# Altium footprint library Altera Footprints.PcbLib: 132 footprints (part 4 of 12)
Each footprint in its own frame and in the unit in brackets; x right, y up, seen from the top. Pads: shape width x height; smd on the part's side, far side on the other; paste and mask are expansions set on the pad; w line width, h text height; cw(c..) or ccw(c..) is an arc to the next point about the centre after c.
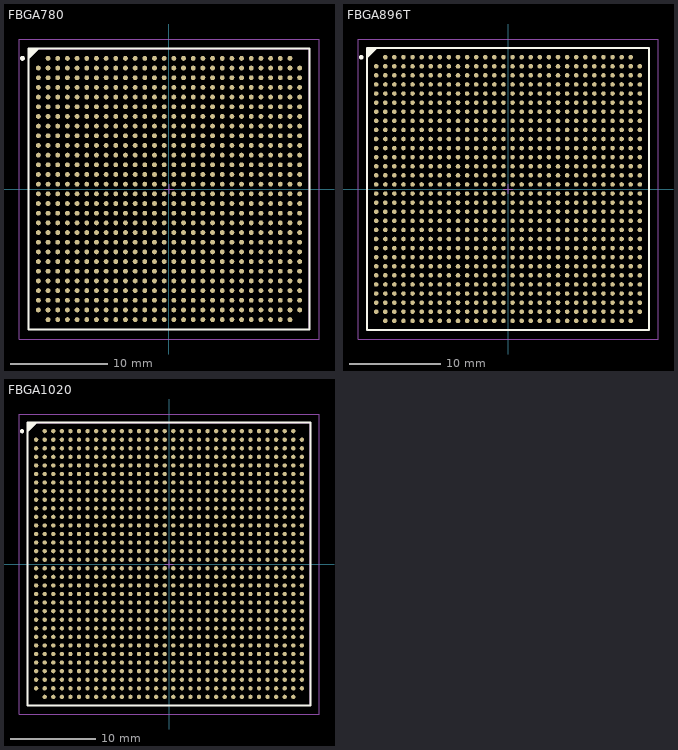
[diagram p3: the footprints below, top view; thin cyan lines are the x and y axes]

## FBGA780 [mm] "780-Ball FineLine Ball Grid Array (FBGA780) - Flip Chip"
height 3.5
pads (780):
  round 0.5 smd: A2(-12.5,13.5) A3(-11.5,13.5) A4(-10.5,13.5) A5(-9.5,13.5) A6(-8.5,13.5) A7(-7.5,13.5) A8(-6.5,13.5) A9(-5.5,13.5) A10(-4.5,13.5) A11(-3.5,13.5) A12(-2.5,13.5) A13(-1.5,13.5) A14(-0.5,13.5) A15(0.5,13.5) A16(1.5,13.5) A17(2.5,13.5) A18(3.5,13.5) A19(4.5,13.5) A20(5.5,13.5) A21(6.5,13.5) A22(7.5,13.5) A23(8.5,13.5) A24(9.5,13.5) A25(10.5,13.5) A26(11.5,13.5) A27(12.5,13.5) AA1(-13.5,-6.5) AA2(-12.5,-6.5) AA3(-11.5,-6.5) AA4(-10.5,-6.5) AA5(-9.5,-6.5) AA6(-8.5,-6.5) AA7(-7.5,-6.5) AA8(-6.5,-6.5) AA9(-5.5,-6.5) AA10(-4.5,-6.5) AA11(-3.5,-6.5) AA12(-2.5,-6.5) AA13(-1.5,-6.5) AA14(-0.5,-6.5) AA15(0.5,-6.5) AA16(1.5,-6.5) AA17(2.5,-6.5) AA18(3.5,-6.5) AA19(4.5,-6.5) AA20(5.5,-6.5) AA21(6.5,-6.5) AA22(7.5,-6.5) AA23(8.5,-6.5) AA24(9.5,-6.5) AA25(10.5,-6.5) AA26(11.5,-6.5) AA27(12.5,-6.5) AA28(13.5,-6.5) AB1(-13.5,-7.5) AB2(-12.5,-7.5) AB3(-11.5,-7.5) AB4(-10.5,-7.5) AB5(-9.5,-7.5) AB6(-8.5,-7.5) AB7(-7.5,-7.5) AB8(-6.5,-7.5) AB9(-5.5,-7.5) AB10(-4.5,-7.5) AB11(-3.5,-7.5) AB12(-2.5,-7.5) AB13(-1.5,-7.5) AB14(-0.5,-7.5) AB15(0.5,-7.5) AB16(1.5,-7.5) AB17(2.5,-7.5) AB18(3.5,-7.5) AB19(4.5,-7.5) AB20(5.5,-7.5) AB21(6.5,-7.5) AB22(7.5,-7.5) AB23(8.5,-7.5) AB24(9.5,-7.5) AB25(10.5,-7.5) AB26(11.5,-7.5) AB27(12.5,-7.5) AB28(13.5,-7.5) AC1(-13.5,-8.5) AC2(-12.5,-8.5) AC3(-11.5,-8.5) AC4(-10.5,-8.5) AC5(-9.5,-8.5) AC6(-8.5,-8.5) AC7(-7.5,-8.5) AC8(-6.5,-8.5) AC9(-5.5,-8.5) AC10(-4.5,-8.5) AC11(-3.5,-8.5) AC12(-2.5,-8.5) AC13(-1.5,-8.5) AC14(-0.5,-8.5) AC15(0.5,-8.5) AC16(1.5,-8.5) AC17(2.5,-8.5) AC18(3.5,-8.5) AC19(4.5,-8.5) AC20(5.5,-8.5) AC21(6.5,-8.5) AC22(7.5,-8.5) AC23(8.5,-8.5) AC24(9.5,-8.5) AC25(10.5,-8.5) AC26(11.5,-8.5) AC27(12.5,-8.5) AC28(13.5,-8.5) AD1(-13.5,-9.5) AD2(-12.5,-9.5) AD3(-11.5,-9.5) AD4(-10.5,-9.5) AD5(-9.5,-9.5) AD6(-8.5,-9.5) AD7(-7.5,-9.5) AD8(-6.5,-9.5) AD9(-5.5,-9.5) AD10(-4.5,-9.5) AD11(-3.5,-9.5) AD12(-2.5,-9.5) AD13(-1.5,-9.5) AD14(-0.5,-9.5) AD15(0.5,-9.5) AD16(1.5,-9.5) AD17(2.5,-9.5) AD18(3.5,-9.5) AD19(4.5,-9.5) AD20(5.5,-9.5) AD21(6.5,-9.5) AD22(7.5,-9.5) AD23(8.5,-9.5) AD24(9.5,-9.5) AD25(10.5,-9.5) AD26(11.5,-9.5) AD27(12.5,-9.5) AD28(13.5,-9.5) AE1(-13.5,-10.5) AE2(-12.5,-10.5) AE3(-11.5,-10.5) AE4(-10.5,-10.5) AE5(-9.5,-10.5) AE6(-8.5,-10.5) AE7(-7.5,-10.5) AE8(-6.5,-10.5) AE9(-5.5,-10.5) AE10(-4.5,-10.5) AE11(-3.5,-10.5) AE12(-2.5,-10.5) AE13(-1.5,-10.5) AE14(-0.5,-10.5) AE15(0.5,-10.5) AE16(1.5,-10.5) AE17(2.5,-10.5) AE18(3.5,-10.5) AE19(4.5,-10.5) AE20(5.5,-10.5) AE21(6.5,-10.5) AE22(7.5,-10.5) AE23(8.5,-10.5) AE24(9.5,-10.5) AE25(10.5,-10.5) AE26(11.5,-10.5) AE27(12.5,-10.5) AE28(13.5,-10.5) AF1(-13.5,-11.5) AF2(-12.5,-11.5) AF3(-11.5,-11.5) AF4(-10.5,-11.5) AF5(-9.5,-11.5) AF6(-8.5,-11.5) AF7(-7.5,-11.5) AF8(-6.5,-11.5) AF9(-5.5,-11.5) AF10(-4.5,-11.5) AF11(-3.5,-11.5) AF12(-2.5,-11.5) AF13(-1.5,-11.5) AF14(-0.5,-11.5) AF15(0.5,-11.5) AF16(1.5,-11.5) AF17(2.5,-11.5) AF18(3.5,-11.5) AF19(4.5,-11.5) AF20(5.5,-11.5) AF21(6.5,-11.5) AF22(7.5,-11.5) AF23(8.5,-11.5) AF24(9.5,-11.5) AF25(10.5,-11.5) AF26(11.5,-11.5) AF27(12.5,-11.5) AF28(13.5,-11.5) AG1(-13.5,-12.5) AG2(-12.5,-12.5) AG3(-11.5,-12.5) AG4(-10.5,-12.5) AG5(-9.5,-12.5) AG6(-8.5,-12.5) AG7(-7.5,-12.5) AG8(-6.5,-12.5) AG9(-5.5,-12.5) AG10(-4.5,-12.5) AG11(-3.5,-12.5) AG12(-2.5,-12.5) AG13(-1.5,-12.5) AG14(-0.5,-12.5) AG15(0.5,-12.5) AG16(1.5,-12.5) AG17(2.5,-12.5) AG18(3.5,-12.5) AG19(4.5,-12.5) AG20(5.5,-12.5) AG21(6.5,-12.5) AG22(7.5,-12.5) AG23(8.5,-12.5) AG24(9.5,-12.5) AG25(10.5,-12.5) AG26(11.5,-12.5) AG27(12.5,-12.5) AG28(13.5,-12.5) AH2(-12.5,-13.5) AH3(-11.5,-13.5) AH4(-10.5,-13.5) AH5(-9.5,-13.5) AH6(-8.5,-13.5) AH7(-7.5,-13.5) AH8(-6.5,-13.5) AH9(-5.5,-13.5) AH10(-4.5,-13.5) AH11(-3.5,-13.5) AH12(-2.5,-13.5) AH13(-1.5,-13.5) AH14(-0.5,-13.5) AH15(0.5,-13.5) AH16(1.5,-13.5) AH17(2.5,-13.5) AH18(3.5,-13.5) AH19(4.5,-13.5) AH20(5.5,-13.5) AH21(6.5,-13.5) AH22(7.5,-13.5) AH23(8.5,-13.5) AH24(9.5,-13.5) AH25(10.5,-13.5) AH26(11.5,-13.5) AH27(12.5,-13.5) B1(-13.5,12.5) B2(-12.5,12.5) B3(-11.5,12.5) B4(-10.5,12.5) B5(-9.5,12.5) B6(-8.5,12.5) B7(-7.5,12.5) B8(-6.5,12.5) B9(-5.5,12.5) B10(-4.5,12.5) B11(-3.5,12.5) B12(-2.5,12.5) B13(-1.5,12.5) B14(-0.5,12.5) B15(0.5,12.5) B16(1.5,12.5) B17(2.5,12.5) B18(3.5,12.5) B19(4.5,12.5) B20(5.5,12.5) B21(6.5,12.5) B22(7.5,12.5) B23(8.5,12.5) B24(9.5,12.5) B25(10.5,12.5) B26(11.5,12.5) B27(12.5,12.5) B28(13.5,12.5) C1(-13.5,11.5) C2(-12.5,11.5) C3(-11.5,11.5) C4(-10.5,11.5) C5(-9.5,11.5) C6(-8.5,11.5) C7(-7.5,11.5) C8(-6.5,11.5) C9(-5.5,11.5) C10(-4.5,11.5) C11(-3.5,11.5) C12(-2.5,11.5) C13(-1.5,11.5) C14(-0.5,11.5) C15(0.5,11.5) C16(1.5,11.5) C17(2.5,11.5) C18(3.5,11.5) C19(4.5,11.5) C20(5.5,11.5) C21(6.5,11.5) C22(7.5,11.5) C23(8.5,11.5) C24(9.5,11.5) C25(10.5,11.5) C26(11.5,11.5) C27(12.5,11.5) C28(13.5,11.5) D1(-13.5,10.5) D2(-12.5,10.5) D3(-11.5,10.5) D4(-10.5,10.5) D5(-9.5,10.5) D6(-8.5,10.5) D7(-7.5,10.5) D8(-6.5,10.5) D9(-5.5,10.5) D10(-4.5,10.5) D11(-3.5,10.5) D12(-2.5,10.5) D13(-1.5,10.5) D14(-0.5,10.5) D15(0.5,10.5) D16(1.5,10.5) D17(2.5,10.5) D18(3.5,10.5) D19(4.5,10.5) D20(5.5,10.5) D21(6.5,10.5) D22(7.5,10.5) D23(8.5,10.5) D24(9.5,10.5) D25(10.5,10.5) D26(11.5,10.5) D27(12.5,10.5) D28(13.5,10.5) E1(-13.5,9.5) E2(-12.5,9.5) E3(-11.5,9.5) E4(-10.5,9.5) E5(-9.5,9.5) E6(-8.5,9.5) E7(-7.5,9.5) E8(-6.5,9.5) E9(-5.5,9.5) E10(-4.5,9.5) E11(-3.5,9.5) E12(-2.5,9.5) E13(-1.5,9.5) E14(-0.5,9.5) E15(0.5,9.5) E16(1.5,9.5) E17(2.5,9.5) E18(3.5,9.5) E19(4.5,9.5) E20(5.5,9.5) E21(6.5,9.5) E22(7.5,9.5) E23(8.5,9.5) E24(9.5,9.5) E25(10.5,9.5) E26(11.5,9.5) E27(12.5,9.5) E28(13.5,9.5) F1(-13.5,8.5) F2(-12.5,8.5) F3(-11.5,8.5) F4(-10.5,8.5) F5(-9.5,8.5) F6(-8.5,8.5) F7(-7.5,8.5) F8(-6.5,8.5) F9(-5.5,8.5) F10(-4.5,8.5) F11(-3.5,8.5) F12(-2.5,8.5) F13(-1.5,8.5) F14(-0.5,8.5) F15(0.5,8.5) F16(1.5,8.5) F17(2.5,8.5) F18(3.5,8.5) F19(4.5,8.5) F20(5.5,8.5) F21(6.5,8.5) F22(7.5,8.5) F23(8.5,8.5) F24(9.5,8.5) F25(10.5,8.5) F26(11.5,8.5) F27(12.5,8.5) F28(13.5,8.5) G1(-13.5,7.5) G2(-12.5,7.5) G3(-11.5,7.5) G4(-10.5,7.5) G5(-9.5,7.5) G6(-8.5,7.5) G7(-7.5,7.5) G8(-6.5,7.5) G9(-5.5,7.5) G10(-4.5,7.5) G11(-3.5,7.5) G12(-2.5,7.5) G13(-1.5,7.5) G14(-0.5,7.5) G15(0.5,7.5) G16(1.5,7.5) G17(2.5,7.5) G18(3.5,7.5) G19(4.5,7.5) G20(5.5,7.5) G21(6.5,7.5) G22(7.5,7.5) G23(8.5,7.5) G24(9.5,7.5) G25(10.5,7.5) G26(11.5,7.5) G27(12.5,7.5) G28(13.5,7.5) H1(-13.5,6.5) H2(-12.5,6.5) H3(-11.5,6.5) H4(-10.5,6.5) H5(-9.5,6.5) H6(-8.5,6.5) H7(-7.5,6.5) H8(-6.5,6.5) H9(-5.5,6.5) H10(-4.5,6.5) H11(-3.5,6.5) H12(-2.5,6.5) H13(-1.5,6.5) H14(-0.5,6.5) H15(0.5,6.5) H16(1.5,6.5) H17(2.5,6.5) H18(3.5,6.5) H19(4.5,6.5) H20(5.5,6.5) H21(6.5,6.5) H22(7.5,6.5) H23(8.5,6.5) H24(9.5,6.5) H25(10.5,6.5) H26(11.5,6.5) H27(12.5,6.5) H28(13.5,6.5) J1(-13.5,5.5) J2(-12.5,5.5) J3(-11.5,5.5) J4(-10.5,5.5) J5(-9.5,5.5) J6(-8.5,5.5) J7(-7.5,5.5) J8(-6.5,5.5) J9(-5.5,5.5) J10(-4.5,5.5) J11(-3.5,5.5) J12(-2.5,5.5) J13(-1.5,5.5) J14(-0.5,5.5) J15(0.5,5.5) J16(1.5,5.5) J17(2.5,5.5) J18(3.5,5.5) J19(4.5,5.5) J20(5.5,5.5) J21(6.5,5.5) J22(7.5,5.5) J23(8.5,5.5) J24(9.5,5.5) J25(10.5,5.5) J26(11.5,5.5) J27(12.5,5.5) J28(13.5,5.5) K1(-13.5,4.5) K2(-12.5,4.5) K3(-11.5,4.5) K4(-10.5,4.5) K5(-9.5,4.5) K6(-8.5,4.5) K7(-7.5,4.5) K8(-6.5,4.5) K9(-5.5,4.5) K10(-4.5,4.5) K11(-3.5,4.5) K12(-2.5,4.5) K13(-1.5,4.5) K14(-0.5,4.5) K15(0.5,4.5) K16(1.5,4.5) K17(2.5,4.5) K18(3.5,4.5) K19(4.5,4.5) K20(5.5,4.5) K21(6.5,4.5) K22(7.5,4.5) K23(8.5,4.5) K24(9.5,4.5) K25(10.5,4.5) K26(11.5,4.5) K27(12.5,4.5) K28(13.5,4.5) L1(-13.5,3.5) L2(-12.5,3.5) L3(-11.5,3.5) L4(-10.5,3.5) L5(-9.5,3.5) L6(-8.5,3.5) L7(-7.5,3.5) L8(-6.5,3.5) L9(-5.5,3.5) L10(-4.5,3.5) L11(-3.5,3.5) L12(-2.5,3.5) L13(-1.5,3.5) L14(-0.5,3.5) L15(0.5,3.5) L16(1.5,3.5) L17(2.5,3.5) L18(3.5,3.5) L19(4.5,3.5) L20(5.5,3.5) L21(6.5,3.5) L22(7.5,3.5) L23(8.5,3.5) L24(9.5,3.5) L25(10.5,3.5) L26(11.5,3.5) L27(12.5,3.5) L28(13.5,3.5) M1(-13.5,2.5) M2(-12.5,2.5) M3(-11.5,2.5) M4(-10.5,2.5) M5(-9.5,2.5) M6(-8.5,2.5) M7(-7.5,2.5) M8(-6.5,2.5) M9(-5.5,2.5) M10(-4.5,2.5) M11(-3.5,2.5) M12(-2.5,2.5) M13(-1.5,2.5) M14(-0.5,2.5) M15(0.5,2.5) M16(1.5,2.5) M17(2.5,2.5) M18(3.5,2.5) M19(4.5,2.5) M20(5.5,2.5) M21(6.5,2.5) M22(7.5,2.5) M23(8.5,2.5) M24(9.5,2.5) M25(10.5,2.5) M26(11.5,2.5) M27(12.5,2.5) M28(13.5,2.5) N1(-13.5,1.5) N2(-12.5,1.5) N3(-11.5,1.5) N4(-10.5,1.5) N5(-9.5,1.5) N6(-8.5,1.5) N7(-7.5,1.5) N8(-6.5,1.5) N9(-5.5,1.5) N10(-4.5,1.5) N11(-3.5,1.5) N12(-2.5,1.5) N13(-1.5,1.5) N14(-0.5,1.5) N15(0.5,1.5) N16(1.5,1.5) N17(2.5,1.5) N18(3.5,1.5) N19(4.5,1.5) N20(5.5,1.5) N21(6.5,1.5) N22(7.5,1.5) N23(8.5,1.5) N24(9.5,1.5) N25(10.5,1.5) N26(11.5,1.5) N27(12.5,1.5) N28(13.5,1.5) P1(-13.5,0.5) P2(-12.5,0.5) P3(-11.5,0.5) P4(-10.5,0.5) P5(-9.5,0.5) P6(-8.5,0.5) P7(-7.5,0.5) P8(-6.5,0.5) P9(-5.5,0.5) P10(-4.5,0.5) P11(-3.5,0.5) P12(-2.5,0.5) P13(-1.5,0.5) P14(-0.5,0.5) P15(0.5,0.5) P16(1.5,0.5) P17(2.5,0.5) P18(3.5,0.5) P19(4.5,0.5) P20(5.5,0.5) P21(6.5,0.5) P22(7.5,0.5) P23(8.5,0.5) P24(9.5,0.5) P25(10.5,0.5) P26(11.5,0.5) P27(12.5,0.5) P28(13.5,0.5) R1(-13.5,-0.5) R2(-12.5,-0.5) R3(-11.5,-0.5) R4(-10.5,-0.5) R5(-9.5,-0.5) R6(-8.5,-0.5) R7(-7.5,-0.5) R8(-6.5,-0.5) R9(-5.5,-0.5) R10(-4.5,-0.5) R11(-3.5,-0.5) R12(-2.5,-0.5) R13(-1.5,-0.5) R14(-0.5,-0.5) R15(0.5,-0.5) R16(1.5,-0.5) R17(2.5,-0.5) R18(3.5,-0.5) R19(4.5,-0.5) R20(5.5,-0.5) R21(6.5,-0.5) R22(7.5,-0.5) R23(8.5,-0.5) R24(9.5,-0.5) R25(10.5,-0.5) R26(11.5,-0.5) R27(12.5,-0.5) R28(13.5,-0.5) T1(-13.5,-1.5) T2(-12.5,-1.5) T3(-11.5,-1.5) T4(-10.5,-1.5) T5(-9.5,-1.5) T6(-8.5,-1.5) T7(-7.5,-1.5) T8(-6.5,-1.5) T9(-5.5,-1.5) T10(-4.5,-1.5) T11(-3.5,-1.5) T12(-2.5,-1.5) T13(-1.5,-1.5) T14(-0.5,-1.5) T15(0.5,-1.5) T16(1.5,-1.5) T17(2.5,-1.5) T18(3.5,-1.5) T19(4.5,-1.5) T20(5.5,-1.5) T21(6.5,-1.5) T22(7.5,-1.5) T23(8.5,-1.5) T24(9.5,-1.5) T25(10.5,-1.5) T26(11.5,-1.5) T27(12.5,-1.5) T28(13.5,-1.5) U1(-13.5,-2.5) U2(-12.5,-2.5) U3(-11.5,-2.5) U4(-10.5,-2.5) U5(-9.5,-2.5) U6(-8.5,-2.5) U7(-7.5,-2.5) U8(-6.5,-2.5) U9(-5.5,-2.5) U10(-4.5,-2.5) U11(-3.5,-2.5) U12(-2.5,-2.5) U13(-1.5,-2.5) U14(-0.5,-2.5) U15(0.5,-2.5) U16(1.5,-2.5) U17(2.5,-2.5) U18(3.5,-2.5) U19(4.5,-2.5) U20(5.5,-2.5) U21(6.5,-2.5) U22(7.5,-2.5) U23(8.5,-2.5) U24(9.5,-2.5) U25(10.5,-2.5) U26(11.5,-2.5) U27(12.5,-2.5) U28(13.5,-2.5) V1(-13.5,-3.5) V2(-12.5,-3.5) V3(-11.5,-3.5) V4(-10.5,-3.5) V5(-9.5,-3.5) V6(-8.5,-3.5) V7(-7.5,-3.5) V8(-6.5,-3.5) V9(-5.5,-3.5) V10(-4.5,-3.5) V11(-3.5,-3.5) V12(-2.5,-3.5) V13(-1.5,-3.5) V14(-0.5,-3.5) V15(0.5,-3.5) V16(1.5,-3.5) V17(2.5,-3.5) V18(3.5,-3.5) V19(4.5,-3.5) V20(5.5,-3.5) V21(6.5,-3.5) V22(7.5,-3.5) V23(8.5,-3.5) V24(9.5,-3.5) V25(10.5,-3.5) V26(11.5,-3.5) V27(12.5,-3.5) V28(13.5,-3.5) W1(-13.5,-4.5) W2(-12.5,-4.5) W3(-11.5,-4.5) W4(-10.5,-4.5) W5(-9.5,-4.5) W6(-8.5,-4.5) W7(-7.5,-4.5) W8(-6.5,-4.5) W9(-5.5,-4.5) W10(-4.5,-4.5) W11(-3.5,-4.5) W12(-2.5,-4.5) W13(-1.5,-4.5) W14(-0.5,-4.5) W15(0.5,-4.5) W16(1.5,-4.5) W17(2.5,-4.5) W18(3.5,-4.5) W19(4.5,-4.5) W20(5.5,-4.5) W21(6.5,-4.5) W22(7.5,-4.5) W23(8.5,-4.5) W24(9.5,-4.5) W25(10.5,-4.5) W26(11.5,-4.5) W27(12.5,-4.5) W28(13.5,-4.5) Y1(-13.5,-5.5) Y2(-12.5,-5.5) Y3(-11.5,-5.5) Y4(-10.5,-5.5) Y5(-9.5,-5.5) Y6(-8.5,-5.5) Y7(-7.5,-5.5) Y8(-6.5,-5.5) Y9(-5.5,-5.5) Y10(-4.5,-5.5) Y11(-3.5,-5.5) Y12(-2.5,-5.5) Y13(-1.5,-5.5) Y14(-0.5,-5.5) Y15(0.5,-5.5) Y16(1.5,-5.5) Y17(2.5,-5.5) Y18(3.5,-5.5) Y19(4.5,-5.5) Y20(5.5,-5.5) Y21(6.5,-5.5) Y22(7.5,-5.5) Y23(8.5,-5.5) Y24(9.5,-5.5) Y25(10.5,-5.5) Y26(11.5,-5.5) Y27(12.5,-5.5) Y28(13.5,-5.5)
Top Overlay:
  circle w0.25: c-15.15,13.5 r0.125
  region: -13.5,14.5 -14.5,13.5 -14.5,14.5
  lines w0.2: -14.5,13.5 -13.5,14.5 ; -14.5,-14.5 14.5,-14.5 14.5,14.5 -14.5,14.5 -14.5,-14.5
Mechanical 13:
  lines w0.1: -14.5,-14.5 14.5,-14.5 14.5,14.5 -14.5,14.5 -14.5,-14.5
Mechanical 15:
  lines w0.1: -0.5,0 0.5,0 ; 0,-0.5 0,0.5 ; -15.5,-15.5 15.5,-15.5 15.5,15.5 -15.5,15.5 -15.5,-15.5
3D body: height 3.5, standoff 0, extent -14.5,-14.5 14.5,14.5

## FBGA896T [mm] "896-Ball FineLine Ball Grid Array (FBGA896)"
height 2.6
pads (896):
  round 0.5 smd: A2(-13.5,14.5) A3(-12.5,14.5) A4(-11.5,14.5) A5(-10.5,14.5) A6(-9.5,14.5) A7(-8.5,14.5) A8(-7.5,14.5) A9(-6.5,14.5) A10(-5.5,14.5) A11(-4.5,14.5) A12(-3.5,14.5) A13(-2.5,14.5) A14(-1.5,14.5) A15(-0.5,14.5) A16(0.5,14.5) A17(1.5,14.5) A18(2.5,14.5) A19(3.5,14.5) A20(4.5,14.5) A21(5.5,14.5) A22(6.5,14.5) A23(7.5,14.5) A24(8.5,14.5) A25(9.5,14.5) A26(10.5,14.5) A27(11.5,14.5) A28(12.5,14.5) A29(13.5,14.5) AA1(-14.5,-5.5) AA2(-13.5,-5.5) AA3(-12.5,-5.5) AA4(-11.5,-5.5) AA5(-10.5,-5.5) AA6(-9.5,-5.5) AA7(-8.5,-5.5) AA8(-7.5,-5.5) AA9(-6.5,-5.5) AA10(-5.5,-5.5) AA11(-4.5,-5.5) AA12(-3.5,-5.5) AA13(-2.5,-5.5) AA14(-1.5,-5.5) AA15(-0.5,-5.5) AA16(0.5,-5.5) AA17(1.5,-5.5) AA18(2.5,-5.5) AA19(3.5,-5.5) AA20(4.5,-5.5) AA21(5.5,-5.5) AA22(6.5,-5.5) AA23(7.5,-5.5) AA24(8.5,-5.5) AA25(9.5,-5.5) AA26(10.5,-5.5) AA27(11.5,-5.5) AA28(12.5,-5.5) AA29(13.5,-5.5) AA30(14.5,-5.5) AB1(-14.5,-6.5) AB2(-13.5,-6.5) AB3(-12.5,-6.5) AB4(-11.5,-6.5) AB5(-10.5,-6.5) AB6(-9.5,-6.5) AB7(-8.5,-6.5) AB8(-7.5,-6.5) AB9(-6.5,-6.5) AB10(-5.5,-6.5) AB11(-4.5,-6.5) AB12(-3.5,-6.5) AB13(-2.5,-6.5) AB14(-1.5,-6.5) AB15(-0.5,-6.5) AB16(0.5,-6.5) AB17(1.5,-6.5) AB18(2.5,-6.5) AB19(3.5,-6.5) AB20(4.5,-6.5) AB21(5.5,-6.5) AB22(6.5,-6.5) AB23(7.5,-6.5) AB24(8.5,-6.5) AB25(9.5,-6.5) AB26(10.5,-6.5) AB27(11.5,-6.5) AB28(12.5,-6.5) AB29(13.5,-6.5) AB30(14.5,-6.5) AC1(-14.5,-7.5) AC2(-13.5,-7.5) AC3(-12.5,-7.5) AC4(-11.5,-7.5) AC5(-10.5,-7.5) AC6(-9.5,-7.5) AC7(-8.5,-7.5) AC8(-7.5,-7.5) AC9(-6.5,-7.5) AC10(-5.5,-7.5) AC11(-4.5,-7.5) AC12(-3.5,-7.5) AC13(-2.5,-7.5) AC14(-1.5,-7.5) AC15(-0.5,-7.5) AC16(0.5,-7.5) AC17(1.5,-7.5) AC18(2.5,-7.5) AC19(3.5,-7.5) AC20(4.5,-7.5) AC21(5.5,-7.5) AC22(6.5,-7.5) AC23(7.5,-7.5) AC24(8.5,-7.5) AC25(9.5,-7.5) AC26(10.5,-7.5) AC27(11.5,-7.5) AC28(12.5,-7.5) AC29(13.5,-7.5) AC30(14.5,-7.5) AD1(-14.5,-8.5) AD2(-13.5,-8.5) AD3(-12.5,-8.5) AD4(-11.5,-8.5) AD5(-10.5,-8.5) AD6(-9.5,-8.5) AD7(-8.5,-8.5) AD8(-7.5,-8.5) AD9(-6.5,-8.5) AD10(-5.5,-8.5) AD11(-4.5,-8.5) AD12(-3.5,-8.5) AD13(-2.5,-8.5) AD14(-1.5,-8.5) AD15(-0.5,-8.5) AD16(0.5,-8.5) AD17(1.5,-8.5) AD18(2.5,-8.5) AD19(3.5,-8.5) AD20(4.5,-8.5) AD21(5.5,-8.5) AD22(6.5,-8.5) AD23(7.5,-8.5) AD24(8.5,-8.5) AD25(9.5,-8.5) AD26(10.5,-8.5) AD27(11.5,-8.5) AD28(12.5,-8.5) AD29(13.5,-8.5) AD30(14.5,-8.5) AE1(-14.5,-9.5) AE2(-13.5,-9.5) AE3(-12.5,-9.5) AE4(-11.5,-9.5) AE5(-10.5,-9.5) AE6(-9.5,-9.5) AE7(-8.5,-9.5) AE8(-7.5,-9.5) AE9(-6.5,-9.5) AE10(-5.5,-9.5) AE11(-4.5,-9.5) AE12(-3.5,-9.5) AE13(-2.5,-9.5) AE14(-1.5,-9.5) AE15(-0.5,-9.5) AE16(0.5,-9.5) AE17(1.5,-9.5) AE18(2.5,-9.5) AE19(3.5,-9.5) AE20(4.5,-9.5) AE21(5.5,-9.5) AE22(6.5,-9.5) AE23(7.5,-9.5) AE24(8.5,-9.5) AE25(9.5,-9.5) AE26(10.5,-9.5) AE27(11.5,-9.5) AE28(12.5,-9.5) AE29(13.5,-9.5) AE30(14.5,-9.5) AF1(-14.5,-10.5) AF2(-13.5,-10.5) AF3(-12.5,-10.5) AF4(-11.5,-10.5) AF5(-10.5,-10.5) AF6(-9.5,-10.5) AF7(-8.5,-10.5) AF8(-7.5,-10.5) AF9(-6.5,-10.5) AF10(-5.5,-10.5) AF11(-4.5,-10.5) AF12(-3.5,-10.5) AF13(-2.5,-10.5) AF14(-1.5,-10.5) AF15(-0.5,-10.5) AF16(0.5,-10.5) AF17(1.5,-10.5) AF18(2.5,-10.5) AF19(3.5,-10.5) AF20(4.5,-10.5) AF21(5.5,-10.5) AF22(6.5,-10.5) AF23(7.5,-10.5) AF24(8.5,-10.5) AF25(9.5,-10.5) AF26(10.5,-10.5) AF27(11.5,-10.5) AF28(12.5,-10.5) AF29(13.5,-10.5) AF30(14.5,-10.5) AG1(-14.5,-11.5) AG2(-13.5,-11.5) AG3(-12.5,-11.5) AG4(-11.5,-11.5) AG5(-10.5,-11.5) AG6(-9.5,-11.5) AG7(-8.5,-11.5) AG8(-7.5,-11.5) AG9(-6.5,-11.5) AG10(-5.5,-11.5) AG11(-4.5,-11.5) AG12(-3.5,-11.5) AG13(-2.5,-11.5) AG14(-1.5,-11.5) AG15(-0.5,-11.5) AG16(0.5,-11.5) AG17(1.5,-11.5) AG18(2.5,-11.5) AG19(3.5,-11.5) AG20(4.5,-11.5) AG21(5.5,-11.5) AG22(6.5,-11.5) AG23(7.5,-11.5) AG24(8.5,-11.5) AG25(9.5,-11.5) AG26(10.5,-11.5) AG27(11.5,-11.5) AG28(12.5,-11.5) AG29(13.5,-11.5) AG30(14.5,-11.5) AH1(-14.5,-12.5) AH2(-13.5,-12.5) AH3(-12.5,-12.5) AH4(-11.5,-12.5) AH5(-10.5,-12.5) AH6(-9.5,-12.5) AH7(-8.5,-12.5) AH8(-7.5,-12.5) AH9(-6.5,-12.5) AH10(-5.5,-12.5) AH11(-4.5,-12.5) AH12(-3.5,-12.5) AH13(-2.5,-12.5) AH14(-1.5,-12.5) AH15(-0.5,-12.5) AH16(0.5,-12.5) AH17(1.5,-12.5) AH18(2.5,-12.5) AH19(3.5,-12.5) AH20(4.5,-12.5) AH21(5.5,-12.5) AH22(6.5,-12.5) AH23(7.5,-12.5) AH24(8.5,-12.5) AH25(9.5,-12.5) AH26(10.5,-12.5) AH27(11.5,-12.5) AH28(12.5,-12.5) AH29(13.5,-12.5) AH30(14.5,-12.5) AJ1(-14.5,-13.5) AJ2(-13.5,-13.5) AJ3(-12.5,-13.5) AJ4(-11.5,-13.5) AJ5(-10.5,-13.5) AJ6(-9.5,-13.5) AJ7(-8.5,-13.5) AJ8(-7.5,-13.5) AJ9(-6.5,-13.5) AJ10(-5.5,-13.5) AJ11(-4.5,-13.5) AJ12(-3.5,-13.5) AJ13(-2.5,-13.5) AJ14(-1.5,-13.5) AJ15(-0.5,-13.5) AJ16(0.5,-13.5) AJ17(1.5,-13.5) AJ18(2.5,-13.5) AJ19(3.5,-13.5) AJ20(4.5,-13.5) AJ21(5.5,-13.5) AJ22(6.5,-13.5) AJ23(7.5,-13.5) AJ24(8.5,-13.5) AJ25(9.5,-13.5) AJ26(10.5,-13.5) AJ27(11.5,-13.5) AJ28(12.5,-13.5) AJ29(13.5,-13.5) AJ30(14.5,-13.5) AK2(-13.5,-14.5) AK3(-12.5,-14.5) AK4(-11.5,-14.5) AK5(-10.5,-14.5) AK6(-9.5,-14.5) AK7(-8.5,-14.5) AK8(-7.5,-14.5) AK9(-6.5,-14.5) AK10(-5.5,-14.5) AK11(-4.5,-14.5) AK12(-3.5,-14.5) AK13(-2.5,-14.5) AK14(-1.5,-14.5) AK15(-0.5,-14.5) AK16(0.5,-14.5) AK17(1.5,-14.5) AK18(2.5,-14.5) AK19(3.5,-14.5) AK20(4.5,-14.5) AK21(5.5,-14.5) AK22(6.5,-14.5) AK23(7.5,-14.5) AK24(8.5,-14.5) AK25(9.5,-14.5) AK26(10.5,-14.5) AK27(11.5,-14.5) AK28(12.5,-14.5) AK29(13.5,-14.5) B1(-14.5,13.5) B2(-13.5,13.5) B3(-12.5,13.5) B4(-11.5,13.5) B5(-10.5,13.5) B6(-9.5,13.5) B7(-8.5,13.5) B8(-7.5,13.5) B9(-6.5,13.5) B10(-5.5,13.5) B11(-4.5,13.5) B12(-3.5,13.5) B13(-2.5,13.5) B14(-1.5,13.5) B15(-0.5,13.5) B16(0.5,13.5) B17(1.5,13.5) B18(2.5,13.5) B19(3.5,13.5) B20(4.5,13.5) B21(5.5,13.5) B22(6.5,13.5) B23(7.5,13.5) B24(8.5,13.5) B25(9.5,13.5) B26(10.5,13.5) B27(11.5,13.5) B28(12.5,13.5) B29(13.5,13.5) B30(14.5,13.5) C1(-14.5,12.5) C2(-13.5,12.5) C3(-12.5,12.5) C4(-11.5,12.5) C5(-10.5,12.5) C6(-9.5,12.5) C7(-8.5,12.5) C8(-7.5,12.5) C9(-6.5,12.5) C10(-5.5,12.5) C11(-4.5,12.5) C12(-3.5,12.5) C13(-2.5,12.5) C14(-1.5,12.5) C15(-0.5,12.5) C16(0.5,12.5) C17(1.5,12.5) C18(2.5,12.5) C19(3.5,12.5) C20(4.5,12.5) C21(5.5,12.5) C22(6.5,12.5) C23(7.5,12.5) C24(8.5,12.5) C25(9.5,12.5) C26(10.5,12.5) C27(11.5,12.5) C28(12.5,12.5) C29(13.5,12.5) C30(14.5,12.5) D1(-14.5,11.5) D2(-13.5,11.5) D3(-12.5,11.5) D4(-11.5,11.5) D5(-10.5,11.5) D6(-9.5,11.5) D7(-8.5,11.5) D8(-7.5,11.5) D9(-6.5,11.5) D10(-5.5,11.5) D11(-4.5,11.5) D12(-3.5,11.5) D13(-2.5,11.5) D14(-1.5,11.5) D15(-0.5,11.5) D16(0.5,11.5) D17(1.5,11.5) D18(2.5,11.5) D19(3.5,11.5) D20(4.5,11.5) D21(5.5,11.5) D22(6.5,11.5) D23(7.5,11.5) D24(8.5,11.5) D25(9.5,11.5) D26(10.5,11.5) D27(11.5,11.5) D28(12.5,11.5) D29(13.5,11.5) D30(14.5,11.5) E1(-14.5,10.5) E2(-13.5,10.5) E3(-12.5,10.5) E4(-11.5,10.5) E5(-10.5,10.5) E6(-9.5,10.5) E7(-8.5,10.5) E8(-7.5,10.5) E9(-6.5,10.5) E10(-5.5,10.5) E11(-4.5,10.5) E12(-3.5,10.5) E13(-2.5,10.5) E14(-1.5,10.5) E15(-0.5,10.5) E16(0.5,10.5) E17(1.5,10.5) E18(2.5,10.5) E19(3.5,10.5) E20(4.5,10.5) E21(5.5,10.5) E22(6.5,10.5) E23(7.5,10.5) E24(8.5,10.5) E25(9.5,10.5) E26(10.5,10.5) E27(11.5,10.5) E28(12.5,10.5) E29(13.5,10.5) E30(14.5,10.5) F1(-14.5,9.5) F2(-13.5,9.5) F3(-12.5,9.5) F4(-11.5,9.5) F5(-10.5,9.5) F6(-9.5,9.5) F7(-8.5,9.5) F8(-7.5,9.5) F9(-6.5,9.5) F10(-5.5,9.5) F11(-4.5,9.5) F12(-3.5,9.5) F13(-2.5,9.5) F14(-1.5,9.5) F15(-0.5,9.5) F16(0.5,9.5) F17(1.5,9.5) F18(2.5,9.5) F19(3.5,9.5) F20(4.5,9.5) F21(5.5,9.5) F22(6.5,9.5) F23(7.5,9.5) F24(8.5,9.5) F25(9.5,9.5) F26(10.5,9.5) F27(11.5,9.5) F28(12.5,9.5) F29(13.5,9.5) F30(14.5,9.5) G1(-14.5,8.5) G2(-13.5,8.5) G3(-12.5,8.5) G4(-11.5,8.5) G5(-10.5,8.5) G6(-9.5,8.5) G7(-8.5,8.5) G8(-7.5,8.5) G9(-6.5,8.5) G10(-5.5,8.5) G11(-4.5,8.5) G12(-3.5,8.5) G13(-2.5,8.5) G14(-1.5,8.5) G15(-0.5,8.5) G16(0.5,8.5) G17(1.5,8.5) G18(2.5,8.5) G19(3.5,8.5) G20(4.5,8.5) G21(5.5,8.5) G22(6.5,8.5) G23(7.5,8.5) G24(8.5,8.5) G25(9.5,8.5) G26(10.5,8.5) G27(11.5,8.5) G28(12.5,8.5) G29(13.5,8.5) G30(14.5,8.5) H1(-14.5,7.5) H2(-13.5,7.5) H3(-12.5,7.5) H4(-11.5,7.5) H5(-10.5,7.5) H6(-9.5,7.5) H7(-8.5,7.5) H8(-7.5,7.5) H9(-6.5,7.5) H10(-5.5,7.5) H11(-4.5,7.5) H12(-3.5,7.5) H13(-2.5,7.5) H14(-1.5,7.5) H15(-0.5,7.5) H16(0.5,7.5) H17(1.5,7.5) H18(2.5,7.5) H19(3.5,7.5) H20(4.5,7.5) H21(5.5,7.5) H22(6.5,7.5) H23(7.5,7.5) H24(8.5,7.5) H25(9.5,7.5) H26(10.5,7.5) H27(11.5,7.5) H28(12.5,7.5) H29(13.5,7.5) H30(14.5,7.5) J1(-14.5,6.5) J2(-13.5,6.5) J3(-12.5,6.5) J4(-11.5,6.5) J5(-10.5,6.5) J6(-9.5,6.5) J7(-8.5,6.5) J8(-7.5,6.5) J9(-6.5,6.5) J10(-5.5,6.5) J11(-4.5,6.5) J12(-3.5,6.5) J13(-2.5,6.5) J14(-1.5,6.5) J15(-0.5,6.5) J16(0.5,6.5) J17(1.5,6.5) J18(2.5,6.5) J19(3.5,6.5) J20(4.5,6.5) J21(5.5,6.5) J22(6.5,6.5) J23(7.5,6.5) J24(8.5,6.5) J25(9.5,6.5) J26(10.5,6.5) J27(11.5,6.5) J28(12.5,6.5) J29(13.5,6.5) J30(14.5,6.5) K1(-14.5,5.5) K2(-13.5,5.5) K3(-12.5,5.5) K4(-11.5,5.5) K5(-10.5,5.5) K6(-9.5,5.5) K7(-8.5,5.5) K8(-7.5,5.5) K9(-6.5,5.5) K10(-5.5,5.5) K11(-4.5,5.5) K12(-3.5,5.5) K13(-2.5,5.5) K14(-1.5,5.5) K15(-0.5,5.5) K16(0.5,5.5) K17(1.5,5.5) K18(2.5,5.5) K19(3.5,5.5) K20(4.5,5.5) K21(5.5,5.5) K22(6.5,5.5) K23(7.5,5.5) K24(8.5,5.5) K25(9.5,5.5) K26(10.5,5.5) K27(11.5,5.5) K28(12.5,5.5) K29(13.5,5.5) K30(14.5,5.5) L1(-14.5,4.5) L2(-13.5,4.5) L3(-12.5,4.5) L4(-11.5,4.5) L5(-10.5,4.5) L6(-9.5,4.5) L7(-8.5,4.5) L8(-7.5,4.5) L9(-6.5,4.5) L10(-5.5,4.5) L11(-4.5,4.5) L12(-3.5,4.5) L13(-2.5,4.5) L14(-1.5,4.5) L15(-0.5,4.5) L16(0.5,4.5) L17(1.5,4.5) L18(2.5,4.5) L19(3.5,4.5) L20(4.5,4.5) L21(5.5,4.5) L22(6.5,4.5) L23(7.5,4.5) L24(8.5,4.5) L25(9.5,4.5) L26(10.5,4.5) L27(11.5,4.5) L28(12.5,4.5) L29(13.5,4.5) L30(14.5,4.5) M1(-14.5,3.5) M2(-13.5,3.5) M3(-12.5,3.5) M4(-11.5,3.5) M5(-10.5,3.5) M6(-9.5,3.5) M7(-8.5,3.5) M8(-7.5,3.5) M9(-6.5,3.5) M10(-5.5,3.5) M11(-4.5,3.5) M12(-3.5,3.5) M13(-2.5,3.5) M14(-1.5,3.5) M15(-0.5,3.5) M16(0.5,3.5) M17(1.5,3.5) M18(2.5,3.5) M19(3.5,3.5) M20(4.5,3.5) M21(5.5,3.5) M22(6.5,3.5) M23(7.5,3.5) M24(8.5,3.5) M25(9.5,3.5) M26(10.5,3.5) M27(11.5,3.5) M28(12.5,3.5) M29(13.5,3.5) M30(14.5,3.5) N1(-14.5,2.5) N2(-13.5,2.5) N3(-12.5,2.5) N4(-11.5,2.5) N5(-10.5,2.5) N6(-9.5,2.5) N7(-8.5,2.5) N8(-7.5,2.5) N9(-6.5,2.5) N10(-5.5,2.5) N11(-4.5,2.5) N12(-3.5,2.5) N13(-2.5,2.5) N14(-1.5,2.5) N15(-0.5,2.5) N16(0.5,2.5) N17(1.5,2.5) N18(2.5,2.5) N19(3.5,2.5) N20(4.5,2.5) N21(5.5,2.5) N22(6.5,2.5) N23(7.5,2.5) N24(8.5,2.5) N25(9.5,2.5) N26(10.5,2.5) N27(11.5,2.5) N28(12.5,2.5) N29(13.5,2.5) N30(14.5,2.5) P1(-14.5,1.5) P2(-13.5,1.5) P3(-12.5,1.5) P4(-11.5,1.5) P5(-10.5,1.5) P6(-9.5,1.5) P7(-8.5,1.5) P8(-7.5,1.5) P9(-6.5,1.5) P10(-5.5,1.5) P11(-4.5,1.5) P12(-3.5,1.5) P13(-2.5,1.5) P14(-1.5,1.5) P15(-0.5,1.5) P16(0.5,1.5) P17(1.5,1.5) P18(2.5,1.5) P19(3.5,1.5) P20(4.5,1.5) P21(5.5,1.5) P22(6.5,1.5) P23(7.5,1.5) P24(8.5,1.5) P25(9.5,1.5) P26(10.5,1.5) P27(11.5,1.5) P28(12.5,1.5) P29(13.5,1.5) P30(14.5,1.5) R1(-14.5,0.5) R2(-13.5,0.5) R3(-12.5,0.5) R4(-11.5,0.5) R5(-10.5,0.5) R6(-9.5,0.5) R7(-8.5,0.5) R8(-7.5,0.5) R9(-6.5,0.5) R10(-5.5,0.5) R11(-4.5,0.5) R12(-3.5,0.5) R13(-2.5,0.5) R14(-1.5,0.5) R15(-0.5,0.5) R16(0.5,0.5) R17(1.5,0.5) R18(2.5,0.5) R19(3.5,0.5) R20(4.5,0.5) R21(5.5,0.5) R22(6.5,0.5) R23(7.5,0.5) R24(8.5,0.5) R25(9.5,0.5) R26(10.5,0.5) R27(11.5,0.5) R28(12.5,0.5) R29(13.5,0.5) R30(14.5,0.5) T1(-14.5,-0.5) T2(-13.5,-0.5) T3(-12.5,-0.5) T4(-11.5,-0.5) T5(-10.5,-0.5) T6(-9.5,-0.5) T7(-8.5,-0.5) T8(-7.5,-0.5) T9(-6.5,-0.5) T10(-5.5,-0.5) T11(-4.5,-0.5) T12(-3.5,-0.5) T13(-2.5,-0.5) T14(-1.5,-0.5) T15(-0.5,-0.5) T16(0.5,-0.5) T17(1.5,-0.5) T18(2.5,-0.5) T19(3.5,-0.5) T20(4.5,-0.5) T21(5.5,-0.5) T22(6.5,-0.5) T23(7.5,-0.5) T24(8.5,-0.5) T25(9.5,-0.5) T26(10.5,-0.5) T27(11.5,-0.5) T28(12.5,-0.5) T29(13.5,-0.5) T30(14.5,-0.5) U1(-14.5,-1.5) U2(-13.5,-1.5) U3(-12.5,-1.5) U4(-11.5,-1.5) U5(-10.5,-1.5) U6(-9.5,-1.5) U7(-8.5,-1.5) U8(-7.5,-1.5) U9(-6.5,-1.5) U10(-5.5,-1.5) U11(-4.5,-1.5) U12(-3.5,-1.5) U13(-2.5,-1.5) U14(-1.5,-1.5) U15(-0.5,-1.5) U16(0.5,-1.5) U17(1.5,-1.5) U18(2.5,-1.5) U19(3.5,-1.5) U20(4.5,-1.5) U21(5.5,-1.5) U22(6.5,-1.5) U23(7.5,-1.5) U24(8.5,-1.5) U25(9.5,-1.5) U26(10.5,-1.5) U27(11.5,-1.5) U28(12.5,-1.5) U29(13.5,-1.5) U30(14.5,-1.5) V1(-14.5,-2.5) V2(-13.5,-2.5) V3(-12.5,-2.5) V4(-11.5,-2.5) V5(-10.5,-2.5) V6(-9.5,-2.5) V7(-8.5,-2.5) V8(-7.5,-2.5) V9(-6.5,-2.5) V10(-5.5,-2.5) V11(-4.5,-2.5) V12(-3.5,-2.5) V13(-2.5,-2.5) V14(-1.5,-2.5) V15(-0.5,-2.5) V16(0.5,-2.5) V17(1.5,-2.5) V18(2.5,-2.5) V19(3.5,-2.5) V20(4.5,-2.5) V21(5.5,-2.5) V22(6.5,-2.5) V23(7.5,-2.5) V24(8.5,-2.5) V25(9.5,-2.5) V26(10.5,-2.5) V27(11.5,-2.5) V28(12.5,-2.5) V29(13.5,-2.5) V30(14.5,-2.5) W1(-14.5,-3.5) W2(-13.5,-3.5) W3(-12.5,-3.5) W4(-11.5,-3.5) W5(-10.5,-3.5) W6(-9.5,-3.5) W7(-8.5,-3.5) W8(-7.5,-3.5) W9(-6.5,-3.5) W10(-5.5,-3.5) W11(-4.5,-3.5) W12(-3.5,-3.5) W13(-2.5,-3.5) W14(-1.5,-3.5) W15(-0.5,-3.5) W16(0.5,-3.5) W17(1.5,-3.5) W18(2.5,-3.5) W19(3.5,-3.5) W20(4.5,-3.5) W21(5.5,-3.5) W22(6.5,-3.5) W23(7.5,-3.5) W24(8.5,-3.5) W25(9.5,-3.5) W26(10.5,-3.5) W27(11.5,-3.5) W28(12.5,-3.5) W29(13.5,-3.5) W30(14.5,-3.5) Y1(-14.5,-4.5) Y2(-13.5,-4.5) Y3(-12.5,-4.5) Y4(-11.5,-4.5) Y5(-10.5,-4.5) Y6(-9.5,-4.5) Y7(-8.5,-4.5) Y8(-7.5,-4.5) Y9(-6.5,-4.5) Y10(-5.5,-4.5) Y11(-4.5,-4.5) Y12(-3.5,-4.5) Y13(-2.5,-4.5) Y14(-1.5,-4.5) Y15(-0.5,-4.5) Y16(0.5,-4.5) Y17(1.5,-4.5) Y18(2.5,-4.5) Y19(3.5,-4.5) Y20(4.5,-4.5) Y21(5.5,-4.5) Y22(6.5,-4.5) Y23(7.5,-4.5) Y24(8.5,-4.5) Y25(9.5,-4.5) Y26(10.5,-4.5) Y27(11.5,-4.5) Y28(12.5,-4.5) Y29(13.5,-4.5) Y30(14.5,-4.5)
Top Overlay:
  circle w0.25: c-16.15,14.5 r0.125
  region: -14.5,15.5 -15.5,14.5 -15.5,15.5
  lines w0.2: -15.5,14.5 -14.5,15.5 ; -15.5,-15.5 -15.5,15.5 15.5,15.5 15.5,-15.5 -15.5,-15.5
Mechanical 13:
  lines w0.1: -15.5,-15.5 -15.5,15.5 15.5,15.5 15.5,-15.5 -15.5,-15.5
Mechanical 15:
  lines w0.1: -0.5,0 0.5,0 ; 0,-0.5 0,0.5 ; -16.5,-16.5 -16.5,16.5 16.5,16.5 16.5,-16.5 -16.5,-16.5
3D body: height 2.6, standoff 0, extent -15.5,-15.5 15.5,15.5

## FBGA1020 [mm] "1020-Ball FineLine Ball Grid Array (FBGA1020) - Flip Chip"
height 3.5
pads (1020):
  round 0.5 smd: A2(-14.5,15.5) A3(-13.5,15.5) A4(-12.5,15.5) A5(-11.5,15.5) A6(-10.5,15.5) A7(-9.5,15.5) A8(-8.5,15.5) A9(-7.5,15.5) A10(-6.5,15.5) A11(-5.5,15.5) A12(-4.5,15.5) A13(-3.5,15.5) A14(-2.5,15.5) A15(-1.5,15.5) A16(-0.5,15.5) A17(0.5,15.5) A18(1.5,15.5) A19(2.5,15.5) A20(3.5,15.5) A21(4.5,15.5) A22(5.5,15.5) A23(6.5,15.5) A24(7.5,15.5) A25(8.5,15.5) A26(9.5,15.5) A27(10.5,15.5) A28(11.5,15.5) A29(12.5,15.5) A30(13.5,15.5) A31(14.5,15.5) AA1(-15.5,-4.5) AA2(-14.5,-4.5) AA3(-13.5,-4.5) AA4(-12.5,-4.5) AA5(-11.5,-4.5) AA6(-10.5,-4.5) AA7(-9.5,-4.5) AA8(-8.5,-4.5) AA9(-7.5,-4.5) AA10(-6.5,-4.5) AA11(-5.5,-4.5) AA12(-4.5,-4.5) AA13(-3.5,-4.5) AA14(-2.5,-4.5) AA15(-1.5,-4.5) AA16(-0.5,-4.5) AA17(0.5,-4.5) AA18(1.5,-4.5) AA19(2.5,-4.5) AA20(3.5,-4.5) AA21(4.5,-4.5) AA22(5.5,-4.5) AA23(6.5,-4.5) AA24(7.5,-4.5) AA25(8.5,-4.5) AA26(9.5,-4.5) AA27(10.5,-4.5) AA28(11.5,-4.5) AA29(12.5,-4.5) AA30(13.5,-4.5) AA31(14.5,-4.5) AA32(15.5,-4.5) AB1(-15.5,-5.5) AB2(-14.5,-5.5) AB3(-13.5,-5.5) AB4(-12.5,-5.5) AB5(-11.5,-5.5) AB6(-10.5,-5.5) AB7(-9.5,-5.5) AB8(-8.5,-5.5) AB9(-7.5,-5.5) AB10(-6.5,-5.5) AB11(-5.5,-5.5) AB12(-4.5,-5.5) AB13(-3.5,-5.5) AB14(-2.5,-5.5) AB15(-1.5,-5.5) AB16(-0.5,-5.5) AB17(0.5,-5.5) AB18(1.5,-5.5) AB19(2.5,-5.5) AB20(3.5,-5.5) AB21(4.5,-5.5) AB22(5.5,-5.5) AB23(6.5,-5.5) AB24(7.5,-5.5) AB25(8.5,-5.5) AB26(9.5,-5.5) AB27(10.5,-5.5) AB28(11.5,-5.5) AB29(12.5,-5.5) AB30(13.5,-5.5) AB31(14.5,-5.5) AB32(15.5,-5.5) AC1(-15.5,-6.5) AC2(-14.5,-6.5) AC3(-13.5,-6.5) AC4(-12.5,-6.5) AC5(-11.5,-6.5) AC6(-10.5,-6.5) AC7(-9.5,-6.5) AC8(-8.5,-6.5) AC9(-7.5,-6.5) AC10(-6.5,-6.5) AC11(-5.5,-6.5) AC12(-4.5,-6.5) AC13(-3.5,-6.5) AC14(-2.5,-6.5) AC15(-1.5,-6.5) AC16(-0.5,-6.5) AC17(0.5,-6.5) AC18(1.5,-6.5) AC19(2.5,-6.5) AC20(3.5,-6.5) AC21(4.5,-6.5) AC22(5.5,-6.5) AC23(6.5,-6.5) AC24(7.5,-6.5) AC25(8.5,-6.5) AC26(9.5,-6.5) AC27(10.5,-6.5) AC28(11.5,-6.5) AC29(12.5,-6.5) AC30(13.5,-6.5) AC31(14.5,-6.5) AC32(15.5,-6.5) AD1(-15.5,-7.5) AD2(-14.5,-7.5) AD3(-13.5,-7.5) AD4(-12.5,-7.5) AD5(-11.5,-7.5) AD6(-10.5,-7.5) AD7(-9.5,-7.5) AD8(-8.5,-7.5) AD9(-7.5,-7.5) AD10(-6.5,-7.5) AD11(-5.5,-7.5) AD12(-4.5,-7.5) AD13(-3.5,-7.5) AD14(-2.5,-7.5) AD15(-1.5,-7.5) AD16(-0.5,-7.5) AD17(0.5,-7.5) AD18(1.5,-7.5) AD19(2.5,-7.5) AD20(3.5,-7.5) AD21(4.5,-7.5) AD22(5.5,-7.5) AD23(6.5,-7.5) AD24(7.5,-7.5) AD25(8.5,-7.5) AD26(9.5,-7.5) AD27(10.5,-7.5) AD28(11.5,-7.5) AD29(12.5,-7.5) AD30(13.5,-7.5) AD31(14.5,-7.5) AD32(15.5,-7.5) AE1(-15.5,-8.5) AE2(-14.5,-8.5) AE3(-13.5,-8.5) AE4(-12.5,-8.5) AE5(-11.5,-8.5) AE6(-10.5,-8.5) AE7(-9.5,-8.5) AE8(-8.5,-8.5) AE9(-7.5,-8.5) AE10(-6.5,-8.5) AE11(-5.5,-8.5) AE12(-4.5,-8.5) AE13(-3.5,-8.5) AE14(-2.5,-8.5) AE15(-1.5,-8.5) AE16(-0.5,-8.5) AE17(0.5,-8.5) AE18(1.5,-8.5) AE19(2.5,-8.5) AE20(3.5,-8.5) AE21(4.5,-8.5) AE22(5.5,-8.5) AE23(6.5,-8.5) AE24(7.5,-8.5) AE25(8.5,-8.5) AE26(9.5,-8.5) AE27(10.5,-8.5) AE28(11.5,-8.5) AE29(12.5,-8.5) AE30(13.5,-8.5) AE31(14.5,-8.5) AE32(15.5,-8.5) AF1(-15.5,-9.5) AF2(-14.5,-9.5) AF3(-13.5,-9.5) AF4(-12.5,-9.5) AF5(-11.5,-9.5) AF6(-10.5,-9.5) AF7(-9.5,-9.5) AF8(-8.5,-9.5) AF9(-7.5,-9.5) AF10(-6.5,-9.5) AF11(-5.5,-9.5) AF12(-4.5,-9.5) AF13(-3.5,-9.5) AF14(-2.5,-9.5) AF15(-1.5,-9.5) AF16(-0.5,-9.5) AF17(0.5,-9.5) AF18(1.5,-9.5) AF19(2.5,-9.5) AF20(3.5,-9.5) AF21(4.5,-9.5) AF22(5.5,-9.5) AF23(6.5,-9.5) AF24(7.5,-9.5) AF25(8.5,-9.5) AF26(9.5,-9.5) AF27(10.5,-9.5) AF28(11.5,-9.5) AF29(12.5,-9.5) AF30(13.5,-9.5) AF31(14.5,-9.5) AF32(15.5,-9.5) AG1(-15.5,-10.5) AG2(-14.5,-10.5) AG3(-13.5,-10.5) AG4(-12.5,-10.5) AG5(-11.5,-10.5) AG6(-10.5,-10.5) AG7(-9.5,-10.5) AG8(-8.5,-10.5) AG9(-7.5,-10.5) AG10(-6.5,-10.5) AG11(-5.5,-10.5) AG12(-4.5,-10.5) AG13(-3.5,-10.5) AG14(-2.5,-10.5) AG15(-1.5,-10.5) AG16(-0.5,-10.5) AG17(0.5,-10.5) AG18(1.5,-10.5) AG19(2.5,-10.5) AG20(3.5,-10.5) AG21(4.5,-10.5) AG22(5.5,-10.5) AG23(6.5,-10.5) AG24(7.5,-10.5) AG25(8.5,-10.5) AG26(9.5,-10.5) AG27(10.5,-10.5) AG28(11.5,-10.5) AG29(12.5,-10.5) AG30(13.5,-10.5) AG31(14.5,-10.5) AG32(15.5,-10.5) AH1(-15.5,-11.5) AH2(-14.5,-11.5) AH3(-13.5,-11.5) AH4(-12.5,-11.5) AH5(-11.5,-11.5) AH6(-10.5,-11.5) AH7(-9.5,-11.5) AH8(-8.5,-11.5) AH9(-7.5,-11.5) AH10(-6.5,-11.5) AH11(-5.5,-11.5) AH12(-4.5,-11.5) AH13(-3.5,-11.5) AH14(-2.5,-11.5) AH15(-1.5,-11.5) AH16(-0.5,-11.5) AH17(0.5,-11.5) AH18(1.5,-11.5) AH19(2.5,-11.5) AH20(3.5,-11.5) AH21(4.5,-11.5) AH22(5.5,-11.5) AH23(6.5,-11.5) AH24(7.5,-11.5) AH25(8.5,-11.5) AH26(9.5,-11.5) AH27(10.5,-11.5) AH28(11.5,-11.5) AH29(12.5,-11.5) AH30(13.5,-11.5) AH31(14.5,-11.5) AH32(15.5,-11.5) AJ1(-15.5,-12.5) AJ2(-14.5,-12.5) AJ3(-13.5,-12.5) AJ4(-12.5,-12.5) AJ5(-11.5,-12.5) AJ6(-10.5,-12.5) AJ7(-9.5,-12.5) AJ8(-8.5,-12.5) AJ9(-7.5,-12.5) AJ10(-6.5,-12.5) AJ11(-5.5,-12.5) AJ12(-4.5,-12.5) AJ13(-3.5,-12.5) AJ14(-2.5,-12.5) AJ15(-1.5,-12.5) AJ16(-0.5,-12.5) AJ17(0.5,-12.5) AJ18(1.5,-12.5) AJ19(2.5,-12.5) AJ20(3.5,-12.5) AJ21(4.5,-12.5) AJ22(5.5,-12.5) AJ23(6.5,-12.5) AJ24(7.5,-12.5) AJ25(8.5,-12.5) AJ26(9.5,-12.5) AJ27(10.5,-12.5) AJ28(11.5,-12.5) AJ29(12.5,-12.5) AJ30(13.5,-12.5) AJ31(14.5,-12.5) AJ32(15.5,-12.5) AK1(-15.5,-13.5) AK2(-14.5,-13.5) AK3(-13.5,-13.5) AK4(-12.5,-13.5) AK5(-11.5,-13.5) AK6(-10.5,-13.5) AK7(-9.5,-13.5) AK8(-8.5,-13.5) AK9(-7.5,-13.5) AK10(-6.5,-13.5) AK11(-5.5,-13.5) AK12(-4.5,-13.5) AK13(-3.5,-13.5) AK14(-2.5,-13.5) AK15(-1.5,-13.5) AK16(-0.5,-13.5) AK17(0.5,-13.5) AK18(1.5,-13.5) AK19(2.5,-13.5) AK20(3.5,-13.5) AK21(4.5,-13.5) AK22(5.5,-13.5) AK23(6.5,-13.5) AK24(7.5,-13.5) AK25(8.5,-13.5) AK26(9.5,-13.5) AK27(10.5,-13.5) AK28(11.5,-13.5) AK29(12.5,-13.5) AK30(13.5,-13.5) AK31(14.5,-13.5) AK32(15.5,-13.5) AL1(-15.5,-14.5) AL2(-14.5,-14.5) AL3(-13.5,-14.5) AL4(-12.5,-14.5) AL5(-11.5,-14.5) AL6(-10.5,-14.5) AL7(-9.5,-14.5) AL8(-8.5,-14.5) AL9(-7.5,-14.5) AL10(-6.5,-14.5) AL11(-5.5,-14.5) AL12(-4.5,-14.5) AL13(-3.5,-14.5) AL14(-2.5,-14.5) AL15(-1.5,-14.5) AL16(-0.5,-14.5) AL17(0.5,-14.5) AL18(1.5,-14.5) AL19(2.5,-14.5) AL20(3.5,-14.5) AL21(4.5,-14.5) AL22(5.5,-14.5) AL23(6.5,-14.5) AL24(7.5,-14.5) AL25(8.5,-14.5) AL26(9.5,-14.5) AL27(10.5,-14.5) AL28(11.5,-14.5) AL29(12.5,-14.5) AL30(13.5,-14.5) AL31(14.5,-14.5) AL32(15.5,-14.5) AM2(-14.5,-15.5) AM3(-13.5,-15.5) AM4(-12.5,-15.5) AM5(-11.5,-15.5) AM6(-10.5,-15.5) AM7(-9.5,-15.5) AM8(-8.5,-15.5) AM9(-7.5,-15.5) AM10(-6.5,-15.5) AM11(-5.5,-15.5) AM12(-4.5,-15.5) AM13(-3.5,-15.5) AM14(-2.5,-15.5) AM15(-1.5,-15.5) AM16(-0.5,-15.5) AM17(0.5,-15.5) AM18(1.5,-15.5) AM19(2.5,-15.5) AM20(3.5,-15.5) AM21(4.5,-15.5) AM22(5.5,-15.5) AM23(6.5,-15.5) AM24(7.5,-15.5) AM25(8.5,-15.5) AM26(9.5,-15.5) AM27(10.5,-15.5) AM28(11.5,-15.5) AM29(12.5,-15.5) AM30(13.5,-15.5) AM31(14.5,-15.5) B1(-15.5,14.5) B2(-14.5,14.5) B3(-13.5,14.5) B4(-12.5,14.5) B5(-11.5,14.5) B6(-10.5,14.5) B7(-9.5,14.5) B8(-8.5,14.5) B9(-7.5,14.5) B10(-6.5,14.5) B11(-5.5,14.5) B12(-4.5,14.5) B13(-3.5,14.5) B14(-2.5,14.5) B15(-1.5,14.5) B16(-0.5,14.5) B17(0.5,14.5) B18(1.5,14.5) B19(2.5,14.5) B20(3.5,14.5) B21(4.5,14.5) B22(5.5,14.5) B23(6.5,14.5) B24(7.5,14.5) B25(8.5,14.5) B26(9.5,14.5) B27(10.5,14.5) B28(11.5,14.5) B29(12.5,14.5) B30(13.5,14.5) B31(14.5,14.5) B32(15.5,14.5) C1(-15.5,13.5) C2(-14.5,13.5) C3(-13.5,13.5) C4(-12.5,13.5) C5(-11.5,13.5) C6(-10.5,13.5) C7(-9.5,13.5) C8(-8.5,13.5) C9(-7.5,13.5) C10(-6.5,13.5) C11(-5.5,13.5) C12(-4.5,13.5) C13(-3.5,13.5) C14(-2.5,13.5) C15(-1.5,13.5) C16(-0.5,13.5) C17(0.5,13.5) C18(1.5,13.5) C19(2.5,13.5) C20(3.5,13.5) C21(4.5,13.5) C22(5.5,13.5) C23(6.5,13.5) C24(7.5,13.5) C25(8.5,13.5) C26(9.5,13.5) C27(10.5,13.5) C28(11.5,13.5) C29(12.5,13.5) C30(13.5,13.5) C31(14.5,13.5) C32(15.5,13.5) D1(-15.5,12.5) D2(-14.5,12.5) D3(-13.5,12.5) D4(-12.5,12.5) D5(-11.5,12.5) D6(-10.5,12.5) D7(-9.5,12.5) D8(-8.5,12.5) D9(-7.5,12.5) D10(-6.5,12.5) D11(-5.5,12.5) D12(-4.5,12.5) D13(-3.5,12.5) D14(-2.5,12.5) D15(-1.5,12.5) D16(-0.5,12.5) D17(0.5,12.5) D18(1.5,12.5) D19(2.5,12.5) D20(3.5,12.5) D21(4.5,12.5) D22(5.5,12.5) D23(6.5,12.5) D24(7.5,12.5) D25(8.5,12.5) D26(9.5,12.5) D27(10.5,12.5) D28(11.5,12.5) D29(12.5,12.5) D30(13.5,12.5) D31(14.5,12.5) D32(15.5,12.5) E1(-15.5,11.5) E2(-14.5,11.5) E3(-13.5,11.5) E4(-12.5,11.5) E5(-11.5,11.5) E6(-10.5,11.5) E7(-9.5,11.5) E8(-8.5,11.5) E9(-7.5,11.5) E10(-6.5,11.5) E11(-5.5,11.5) E12(-4.5,11.5) E13(-3.5,11.5) E14(-2.5,11.5) E15(-1.5,11.5) E16(-0.5,11.5) E17(0.5,11.5) E18(1.5,11.5) E19(2.5,11.5) E20(3.5,11.5) E21(4.5,11.5) E22(5.5,11.5) E23(6.5,11.5) E24(7.5,11.5) E25(8.5,11.5) E26(9.5,11.5) E27(10.5,11.5) E28(11.5,11.5) E29(12.5,11.5) E30(13.5,11.5) E31(14.5,11.5) E32(15.5,11.5) F1(-15.5,10.5) F2(-14.5,10.5) F3(-13.5,10.5) F4(-12.5,10.5) F5(-11.5,10.5) F6(-10.5,10.5) F7(-9.5,10.5) F8(-8.5,10.5) F9(-7.5,10.5) F10(-6.5,10.5) F11(-5.5,10.5) F12(-4.5,10.5) F13(-3.5,10.5) F14(-2.5,10.5) F15(-1.5,10.5) F16(-0.5,10.5) F17(0.5,10.5) F18(1.5,10.5) F19(2.5,10.5) F20(3.5,10.5) F21(4.5,10.5) F22(5.5,10.5) F23(6.5,10.5) F24(7.5,10.5) F25(8.5,10.5) F26(9.5,10.5) F27(10.5,10.5) F28(11.5,10.5) F29(12.5,10.5) F30(13.5,10.5) F31(14.5,10.5) F32(15.5,10.5) G1(-15.5,9.5) G2(-14.5,9.5) G3(-13.5,9.5) G4(-12.5,9.5) G5(-11.5,9.5) G6(-10.5,9.5) G7(-9.5,9.5) G8(-8.5,9.5) G9(-7.5,9.5) G10(-6.5,9.5) G11(-5.5,9.5) G12(-4.5,9.5) G13(-3.5,9.5) G14(-2.5,9.5) G15(-1.5,9.5) G16(-0.5,9.5) G17(0.5,9.5) G18(1.5,9.5) G19(2.5,9.5) G20(3.5,9.5) G21(4.5,9.5) G22(5.5,9.5) G23(6.5,9.5) G24(7.5,9.5) G25(8.5,9.5) G26(9.5,9.5) G27(10.5,9.5) G28(11.5,9.5) G29(12.5,9.5) G30(13.5,9.5) G31(14.5,9.5) G32(15.5,9.5) H1(-15.5,8.5) H2(-14.5,8.5) H3(-13.5,8.5) H4(-12.5,8.5) H5(-11.5,8.5) H6(-10.5,8.5) H7(-9.5,8.5) H8(-8.5,8.5) H9(-7.5,8.5) H10(-6.5,8.5) H11(-5.5,8.5) H12(-4.5,8.5) H13(-3.5,8.5) H14(-2.5,8.5) H15(-1.5,8.5) H16(-0.5,8.5) H17(0.5,8.5) H18(1.5,8.5) H19(2.5,8.5) H20(3.5,8.5) H21(4.5,8.5) H22(5.5,8.5) H23(6.5,8.5) H24(7.5,8.5) H25(8.5,8.5) H26(9.5,8.5) H27(10.5,8.5) H28(11.5,8.5) H29(12.5,8.5) H30(13.5,8.5) H31(14.5,8.5) H32(15.5,8.5) J1(-15.5,7.5) J2(-14.5,7.5) J3(-13.5,7.5) J4(-12.5,7.5) J5(-11.5,7.5) J6(-10.5,7.5) J7(-9.5,7.5) J8(-8.5,7.5) J9(-7.5,7.5) J10(-6.5,7.5) J11(-5.5,7.5) J12(-4.5,7.5) J13(-3.5,7.5) J14(-2.5,7.5) J15(-1.5,7.5) J16(-0.5,7.5) J17(0.5,7.5) J18(1.5,7.5) J19(2.5,7.5) J20(3.5,7.5) J21(4.5,7.5) J22(5.5,7.5) J23(6.5,7.5) J24(7.5,7.5) J25(8.5,7.5) J26(9.5,7.5) J27(10.5,7.5) J28(11.5,7.5) J29(12.5,7.5) J30(13.5,7.5) J31(14.5,7.5) J32(15.5,7.5) K1(-15.5,6.5) K2(-14.5,6.5) K3(-13.5,6.5) K4(-12.5,6.5) K5(-11.5,6.5) K6(-10.5,6.5) K7(-9.5,6.5) K8(-8.5,6.5) K9(-7.5,6.5) K10(-6.5,6.5) K11(-5.5,6.5) K12(-4.5,6.5) K13(-3.5,6.5) K14(-2.5,6.5) K15(-1.5,6.5) K16(-0.5,6.5) K17(0.5,6.5) K18(1.5,6.5) K19(2.5,6.5) K20(3.5,6.5) K21(4.5,6.5) K22(5.5,6.5) K23(6.5,6.5) K24(7.5,6.5) K25(8.5,6.5) K26(9.5,6.5) K27(10.5,6.5) K28(11.5,6.5) K29(12.5,6.5) K30(13.5,6.5) K31(14.5,6.5) K32(15.5,6.5) L1(-15.5,5.5) L2(-14.5,5.5) L3(-13.5,5.5) L4(-12.5,5.5) L5(-11.5,5.5) L6(-10.5,5.5) L7(-9.5,5.5) L8(-8.5,5.5) L9(-7.5,5.5) L10(-6.5,5.5) L11(-5.5,5.5) L12(-4.5,5.5) L13(-3.5,5.5) L14(-2.5,5.5) L15(-1.5,5.5) L16(-0.5,5.5) L17(0.5,5.5) L18(1.5,5.5) L19(2.5,5.5) L20(3.5,5.5) L21(4.5,5.5) L22(5.5,5.5) L23(6.5,5.5) L24(7.5,5.5) L25(8.5,5.5) L26(9.5,5.5) L27(10.5,5.5) L28(11.5,5.5) L29(12.5,5.5) L30(13.5,5.5) L31(14.5,5.5) L32(15.5,5.5) M1(-15.5,4.5) M2(-14.5,4.5) M3(-13.5,4.5) M4(-12.5,4.5) M5(-11.5,4.5) M6(-10.5,4.5) M7(-9.5,4.5) M8(-8.5,4.5) M9(-7.5,4.5) M10(-6.5,4.5) M11(-5.5,4.5) M12(-4.5,4.5) M13(-3.5,4.5) M14(-2.5,4.5) M15(-1.5,4.5) M16(-0.5,4.5) M17(0.5,4.5) M18(1.5,4.5) M19(2.5,4.5) M20(3.5,4.5) M21(4.5,4.5) M22(5.5,4.5) M23(6.5,4.5) M24(7.5,4.5) M25(8.5,4.5) M26(9.5,4.5) M27(10.5,4.5) M28(11.5,4.5) M29(12.5,4.5) M30(13.5,4.5) M31(14.5,4.5) M32(15.5,4.5) N1(-15.5,3.5) N2(-14.5,3.5) N3(-13.5,3.5) N4(-12.5,3.5) N5(-11.5,3.5) N6(-10.5,3.5) N7(-9.5,3.5) N8(-8.5,3.5) N9(-7.5,3.5) N10(-6.5,3.5) N11(-5.5,3.5) N12(-4.5,3.5) N13(-3.5,3.5) N14(-2.5,3.5) N15(-1.5,3.5) N16(-0.5,3.5) N17(0.5,3.5) N18(1.5,3.5) N19(2.5,3.5) N20(3.5,3.5) N21(4.5,3.5) N22(5.5,3.5) N23(6.5,3.5) N24(7.5,3.5) N25(8.5,3.5) N26(9.5,3.5) N27(10.5,3.5) N28(11.5,3.5) N29(12.5,3.5) N30(13.5,3.5) N31(14.5,3.5) N32(15.5,3.5) P1(-15.5,2.5) P2(-14.5,2.5) P3(-13.5,2.5) P4(-12.5,2.5) P5(-11.5,2.5) P6(-10.5,2.5) P7(-9.5,2.5) P8(-8.5,2.5) P9(-7.5,2.5) P10(-6.5,2.5) P11(-5.5,2.5) P12(-4.5,2.5) P13(-3.5,2.5) P14(-2.5,2.5) P15(-1.5,2.5) P16(-0.5,2.5) P17(0.5,2.5) P18(1.5,2.5) P19(2.5,2.5) P20(3.5,2.5) P21(4.5,2.5) P22(5.5,2.5) P23(6.5,2.5) P24(7.5,2.5) P25(8.5,2.5) P26(9.5,2.5) P27(10.5,2.5) P28(11.5,2.5) P29(12.5,2.5) P30(13.5,2.5) P31(14.5,2.5) P32(15.5,2.5) R1(-15.5,1.5) R2(-14.5,1.5) R3(-13.5,1.5) R4(-12.5,1.5) R5(-11.5,1.5) R6(-10.5,1.5) R7(-9.5,1.5) R8(-8.5,1.5) R9(-7.5,1.5) R10(-6.5,1.5) R11(-5.5,1.5) R12(-4.5,1.5) R13(-3.5,1.5) R14(-2.5,1.5) R15(-1.5,1.5) R16(-0.5,1.5) R17(0.5,1.5) R18(1.5,1.5) R19(2.5,1.5) R20(3.5,1.5) R21(4.5,1.5) R22(5.5,1.5) R23(6.5,1.5) R24(7.5,1.5) R25(8.5,1.5) R26(9.5,1.5) R27(10.5,1.5) R28(11.5,1.5) R29(12.5,1.5) R30(13.5,1.5) R31(14.5,1.5) R32(15.5,1.5) T1(-15.5,0.5) T2(-14.5,0.5) T3(-13.5,0.5) T4(-12.5,0.5) T5(-11.5,0.5) T6(-10.5,0.5) T7(-9.5,0.5) T8(-8.5,0.5) T9(-7.5,0.5) T10(-6.5,0.5) T11(-5.5,0.5) T12(-4.5,0.5) T13(-3.5,0.5) T14(-2.5,0.5) T15(-1.5,0.5) T16(-0.5,0.5) T17(0.5,0.5) T18(1.5,0.5) T19(2.5,0.5) T20(3.5,0.5) T21(4.5,0.5) T22(5.5,0.5) T23(6.5,0.5) T24(7.5,0.5) T25(8.5,0.5) T26(9.5,0.5) T27(10.5,0.5) T28(11.5,0.5) T29(12.5,0.5) T30(13.5,0.5) T31(14.5,0.5) T32(15.5,0.5) U1(-15.5,-0.5) U2(-14.5,-0.5) U3(-13.5,-0.5) U4(-12.5,-0.5) U5(-11.5,-0.5) U6(-10.5,-0.5) U7(-9.5,-0.5) U8(-8.5,-0.5) U9(-7.5,-0.5) U10(-6.5,-0.5) U11(-5.5,-0.5) U12(-4.5,-0.5) U13(-3.5,-0.5) U14(-2.5,-0.5) U15(-1.5,-0.5) U16(-0.5,-0.5) U17(0.5,-0.5) U18(1.5,-0.5) U19(2.5,-0.5) U20(3.5,-0.5) U21(4.5,-0.5) U22(5.5,-0.5) U23(6.5,-0.5) U24(7.5,-0.5) U25(8.5,-0.5) U26(9.5,-0.5) U27(10.5,-0.5) U28(11.5,-0.5) U29(12.5,-0.5) U30(13.5,-0.5) U31(14.5,-0.5) U32(15.5,-0.5) V1(-15.5,-1.5) V2(-14.5,-1.5) V3(-13.5,-1.5) V4(-12.5,-1.5) V5(-11.5,-1.5) V6(-10.5,-1.5) V7(-9.5,-1.5) V8(-8.5,-1.5) V9(-7.5,-1.5) V10(-6.5,-1.5) V11(-5.5,-1.5) V12(-4.5,-1.5) V13(-3.5,-1.5) V14(-2.5,-1.5) V15(-1.5,-1.5) V16(-0.5,-1.5) V17(0.5,-1.5) V18(1.5,-1.5) V19(2.5,-1.5) V20(3.5,-1.5) V21(4.5,-1.5) V22(5.5,-1.5) V23(6.5,-1.5) V24(7.5,-1.5) V25(8.5,-1.5) V26(9.5,-1.5) V27(10.5,-1.5) V28(11.5,-1.5) V29(12.5,-1.5) V30(13.5,-1.5) V31(14.5,-1.5) V32(15.5,-1.5) W1(-15.5,-2.5) W2(-14.5,-2.5) W3(-13.5,-2.5) W4(-12.5,-2.5) W5(-11.5,-2.5) W6(-10.5,-2.5) W7(-9.5,-2.5) W8(-8.5,-2.5) W9(-7.5,-2.5) W10(-6.5,-2.5) W11(-5.5,-2.5) W12(-4.5,-2.5) W13(-3.5,-2.5) W14(-2.5,-2.5) W15(-1.5,-2.5) W16(-0.5,-2.5) W17(0.5,-2.5) W18(1.5,-2.5) W19(2.5,-2.5) W20(3.5,-2.5) W21(4.5,-2.5) W22(5.5,-2.5) W23(6.5,-2.5) W24(7.5,-2.5) W25(8.5,-2.5) W26(9.5,-2.5) W27(10.5,-2.5) W28(11.5,-2.5) W29(12.5,-2.5) W30(13.5,-2.5) W31(14.5,-2.5) W32(15.5,-2.5) Y1(-15.5,-3.5) Y2(-14.5,-3.5) Y3(-13.5,-3.5) Y4(-12.5,-3.5) Y5(-11.5,-3.5) Y6(-10.5,-3.5) Y7(-9.5,-3.5) Y8(-8.5,-3.5) Y9(-7.5,-3.5) Y10(-6.5,-3.5) Y11(-5.5,-3.5) Y12(-4.5,-3.5) Y13(-3.5,-3.5) Y14(-2.5,-3.5) Y15(-1.5,-3.5) Y16(-0.5,-3.5) Y17(0.5,-3.5) Y18(1.5,-3.5) Y19(2.5,-3.5) Y20(3.5,-3.5) Y21(4.5,-3.5) Y22(5.5,-3.5) Y23(6.5,-3.5) Y24(7.5,-3.5) Y25(8.5,-3.5) Y26(9.5,-3.5) Y27(10.5,-3.5) Y28(11.5,-3.5) Y29(12.5,-3.5) Y30(13.5,-3.5) Y31(14.5,-3.5) Y32(15.5,-3.5)
Top Overlay:
  circle w0.25: c-17.15,15.5 r0.125
  region: -15.5,16.5 -16.5,15.5 -16.5,16.5
  lines w0.2: -16.5,15.5 -15.5,16.5 ; -16.5,-16.5 -16.5,16.5 16.5,16.5 16.5,-16.5 -16.5,-16.5
Mechanical 13:
  lines w0.1: -16.5,-16.5 -16.5,16.5 16.5,16.5 16.5,-16.5 -16.5,-16.5
Mechanical 15:
  lines w0.1: -0.5,0 0.5,0 ; 0,-0.5 0,0.5 ; -17.5,-17.5 -17.5,17.5 17.5,17.5 17.5,-17.5 -17.5,-17.5
3D body: height 3.5, standoff 0, extent -16.5,-16.5 16.5,16.5